# Altium footprint library TI 8-TDFN Q5A.PCBLIB: 1 footprints
Each footprint in its own frame and in the unit in brackets; x right, y up, seen from the top. Pads: shape width x height; smd on the part's side, far side on the other; paste and mask are expansions set on the pad; w line width, h text height; cw(c..) or ccw(c..) is an arc to the next point about the centre after c.
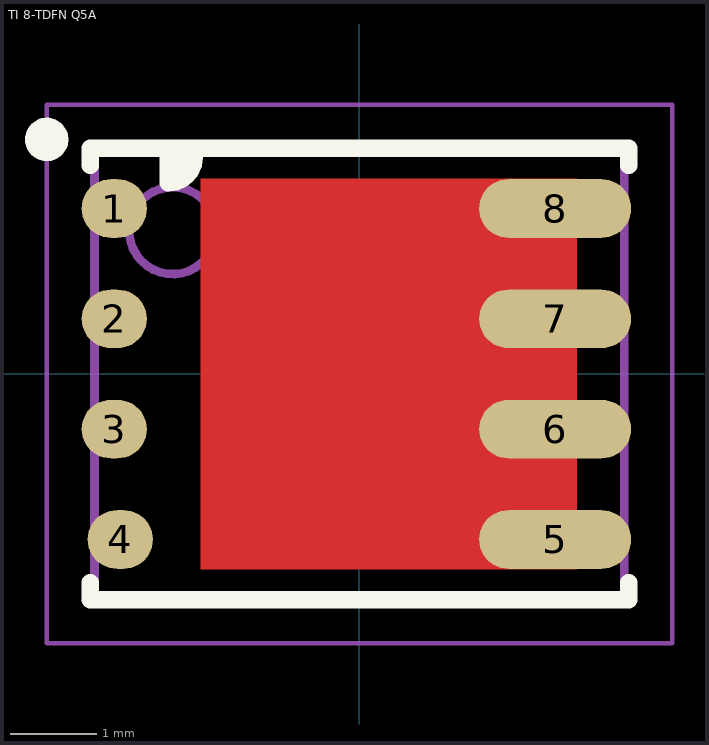
[diagram p0: the footprint, top view; thin cyan lines are the x and y axes]

## TI 8-TDFN Q5A [mm] "TDFN, 8-Leads, Body 6.00x5.00mm, Pitch 1.27mm, Thermal Pad, IPC Medium Density"
height 1.05
pads (8):
  oval 0.75x0.675 smd paste-1: 1(-2.822,1.905) 2(-2.822,0.635) 3(-2.822,-0.635) 4(-2.752,-1.905)
  oval 1.75x0.675 smd paste-1: 5(2.253,-1.905) 6(2.253,-0.635) 7(2.253,0.635) 8(2.253,1.905)
Top Layer:
  region: -1.825,2.25 2.5,2.25 2.5,-2.25 -1.825,-2.25
Top Overlay:
  circle w0.25: c-3.6,2.7 r0.125
  region: -2.2,2.6 -2.2,2.2 -2.14,2.2 -2.03,2.246 -1.946,2.33 -1.9,2.44 -1.9,2.5 -1.9,2.6
  lines w0.2: -3.1,-2.4 -3.1,-2.6 3.1,-2.6 3.1,-2.4 ; -3.1,2.4 -3.1,2.6 3.1,2.6 3.1,2.4 ; -2.2,2.6 -2.2,2.2 ccw(c-2.2,2.5) -1.9,2.5 -1.9,2.6
Top Paste:
  rectangle: -1.235,0.31 -0.25,1.88
  rectangle: -1.235,-1.88 -0.25,-0.31
  region: 1.835,-0.31 0.25,-0.31 0.25,-1.88 1.835,-1.88
  region: 1.835,1.88 0.25,1.88 0.25,0.31 1.835,0.31
  rectangle: 2.52,0.385 3.02,0.885
  rectangle: 2.52,-0.885 3.02,-0.385
  region: -2.52,-0.385 -3.02,-0.385 -3.02,-0.885 -2.52,-0.885
  region: -2.52,0.885 -3.02,0.885 -3.02,0.385 -2.52,0.385
  rectangle: 2.52,1.655 3.02,2.155
  rectangle: 2.52,-2.155 3.02,-1.655
  region: -2.52,-1.655 -3.02,-1.655 -3.02,-2.155 -2.52,-2.155
  region: -2.52,2.155 -3.02,2.155 -3.02,1.655 -2.52,1.655
Mechanical 13:
  circle w0.1: c-2.15,1.65 r0.5
  lines w0.1: -3.05,-2.55 3.05,-2.55 3.05,2.55 -3.05,2.55 -3.05,-2.55
Mechanical 15:
  lines w0.05: -3.6,-3.1 3.6,-3.1 3.6,3.1 -3.6,3.1 -3.6,-3.1
  lines w0.1: -0.5,0 0.5,0 ; 0,-0.5 0,0.5
3D body: height 1.05, standoff 0.01, extent -3.05,-2.55 3.05,2.55